# Altium schematic symbol library Sensor_Gas.SchLib: 14 symbols
Pins are listed as number, name and electrical type; pins without a type are passive.

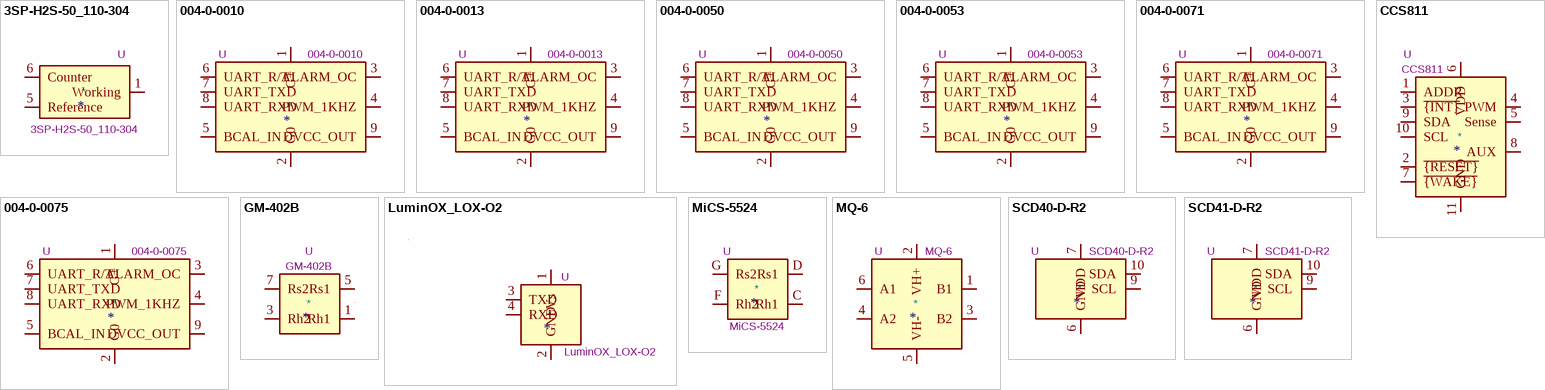
[diagram p0: symbols 3SP-H2S-50_110-304 to SCD41-D-R2]

## 3SP-H2S-50_110-304
designator *  value 3SP-H2S-50_110-304  Reference: U
ki_keywords: H2S sensor; ki_description: SPEC Sensors electrochemical H2S gas sensor; ki_fp_filters: SPEC*110*10Pin*; Footprint: Sensor:SPEC_110-xxx_SMD-10Pin_20x20mm_P4.0mm; Datasheet: https://www.spec-sensors.com/wp-content/uploads/2016/10/3SP_H2S_50-C-Package-110-304.pdf
pins: 1 Working, 5 Reference, 6 Counter, 10 Working hidden

## 004-0-0010
designator *  value 004-0-0010  Reference: U
ki_keywords: Senseair co2 gas sensor pwm modbus; ki_description: S8 Commercial, CO2 sensor, 400-2000 PPM, 1kHz PWM output, Modbus, THT; ki_fp_filters: Senseair*S8*; Datasheet: https://rmtplusstoragesenseair.blob.core.windows.net/docs/publicerat/PSP103.pdf
pins: 1 G+, 2 G0, 3 ALARM_OC, 4 PWM_1KHZ, 5 BCAL_IN, 6 UART_R/T, 7 UART_TXD, 8 UART_RXD, 9 DVCC_OUT

## 004-0-0013
designator *  value 004-0-0013  Reference: U
ki_keywords: Senseair co2 gas sensor pwm modbus; ki_description: S8 Residential, CO2 sensor, 400-2000 PPM, 1kHz PWM output, Modbus, THT; ki_fp_filters: Senseair*S8*; Datasheet: https://rmtplusstoragesenseair.blob.core.windows.net/docs/publicerat/PSP107.pdf
pins: 1 G+, 2 G0, 3 ALARM_OC, 4 PWM_1KHZ, 5 BCAL_IN, 6 UART_R/T, 7 UART_TXD, 8 UART_RXD, 9 DVCC_OUT

## 004-0-0050
designator *  value 004-0-0050  Reference: U
ki_keywords: Senseair co2 gas sensor pwm modbus; ki_description: S8 2%, CO2 sensor, 0.04-2% by volume, 1kHz PWM output, Modbus, THT; ki_fp_filters: Senseair*S8*; Datasheet: https://rmtplusstoragesenseair.blob.core.windows.net/docs/publicerat/PSP108.pdf
pins: 1 G+, 2 G0, 3 ALARM_OC, 4 PWM_1KHZ, 5 BCAL_IN, 6 UART_R/T, 7 UART_TXD, 8 UART_RXD, 9 DVCC_OUT

## 004-0-0053
designator *  value 004-0-0053  Reference: U
ki_keywords: Senseair co2 gas sensor pwm modbus; ki_description: S8 LP, CO2 sensor, 400-2000 PPM, 1kHz PWM output, Modbus, THT; ki_fp_filters: Senseair*S8*; Datasheet: https://rmtplusstoragesenseair.blob.core.windows.net/docs/publicerat/PSP126.pdf
pins: 1 G+, 2 G0, 3 ALARM_OC, 4 PWM_1KHZ, 5 BCAL_IN, 6 UART_R/T, 7 UART_TXD, 8 UART_RXD, 9 DVCC_OUT

## 004-0-0071
designator *  value 004-0-0071  Reference: U
ki_keywords: Senseair co2 gas sensor pwm modbus; ki_description: S8 5%, CO2 sensor, 0.04-5% by volume, 1kHz PWM output, Modbus, THT; ki_fp_filters: Senseair*S8*; Datasheet: https://rmtplusstoragesenseair.blob.core.windows.net/docs/publicerat/PSP0113.pdf
pins: 1 G+, 2 G0, 3 ALARM_OC, 4 PWM_1KHZ, 5 BCAL_IN, 6 UART_R/T, 7 UART_TXD, 8 UART_RXD, 9 DVCC_OUT

## 004-0-0075
designator *  value 004-0-0075  Reference: U
ki_keywords: Senseair co2 gas sensor pwm modbus; ki_description: S8 Commercial, CO2 sensor, 400-2000 PPM, 1kHz PWM output, Modbus, THT; ki_fp_filters: Senseair*S8*; Datasheet: https://rmtplusstoragesenseair.blob.core.windows.net/docs/publicerat/PSP103.pdf
pins: 1 G+, 2 G0, 3 ALARM_OC, 4 PWM_1KHZ, 5 BCAL_IN, 6 UART_R/T, 7 UART_TXD, 8 UART_RXD, 9 DVCC_OUT

## CCS811
designator *  value CCS811  Reference: U
ki_keywords: metal oxide gas sensor MOX volatile organix comounds VOC I2C; ki_description: Ultra-low power digital gas sensor for monitoring indoor air quality; ki_fp_filters: AMS?LGA*EP*2.7x4mm*P0.6mm*; Footprint: Package_LGA:AMS_LGA-10-1EP_2.7x4mm_P0.6mm; Datasheet: https://www.sciosense.com/wp-content/uploads/documents/SC-001232-DS-3-CCS811B-Datasheet-Revision-2.pdf
pins: 1 ADDR, 2 ~{{RESET}}, 3 ~{{INT}}, 4 PWM, 5 Sense, 6 VDD, 7 ~{{WAKE}}, 8 AUX, 9 SDA, 10 SCL, 11 GND

## GM-402B
designator *  value GM-402B  Reference: U
ki_keywords: gas sensor; ki_description: MEMS Combustible Gas Sensor; ki_fp_filters: Winson?GM?402B*; Footprint: Sensor:Winson_GM-402B_5x5mm_P1.27mm; Datasheet: https://www.winsen-sensor.com/d/files/me2/mems--gm-402b--manual-v1_1.pdf
pins: 1 Rh1, 2 NC hidden, 3 Rh2, 4 NC hidden, 5 Rs1, 6 NC hidden, 7 Rs2, 8 NC hidden

## LuminOX_LOX-O2
designator *  value LuminOX_LOX-O2  Reference: U
ki_keywords: O2 sensor; ki_description: SST LuminOX Luminescence-based O2 sensor; ki_fp_filters: LuminOX?LOX?O2*; Footprint: Sensor:LuminOX_LOX-O2; Datasheet: https://sstsensing.com/wp-content/uploads/2021/08/DS0030rev15_LuminOx.pdf
pins: 1 Vs, 2 GND, 3 TXD, 4 RXD

## MiCS-5524
designator *  value MiCS-5524  Reference: U
ki_keywords: CO sensor; ki_description: Compact MOS CO sensor; ki_fp_filters: Sensortech?MiCS?5x7mm*P1.25mm*; Footprint: Sensor:Sensortech_MiCS_5x7mm_P1.25mm; Datasheet: https://www.sgxsensortech.com/content/uploads/2014/07/1084_Datasheet-MiCS-5524-rev-8.pdf
pins: A NC hidden, B NC hidden, C Rh1, D Rs1, E NC hidden, F Rh2, G Rs2, H NC hidden, J NC hidden, K NC hidden

## MQ-6
designator *  value MQ-6  Reference: U
ki_keywords: flammable gas sensor LPG; ki_description: Semiconductor Sensor for Flammable Gas; ki_fp_filters: *MQ*6*; Footprint: Sensor:MQ-6; Datasheet: https://www.winsen-sensor.com/d/files/semiconductor/mq-6.pdf
pins: 1 B1, 2 VH+, 3 B2, 4 A2, 5 VH-, 6 A1

## SCD40-D-R2
designator *  value SCD40-D-R2  Reference: U
ki_keywords: CO2 sensor I2C; ki_description: Photoacoustic CO2 sensor, 40 000 ppm, I2C, 2.4-5.5 V, Base accuracy  400 - 2000 ppm; ki_fp_filters: Sensirion*SCD4?*; Footprint: Sensor:Sensirion_SCD4x-1EP_10.1x10.1mm_P1.25mm_EP4.8x4.8mm; Datasheet: https://sensirion.com/media/documents/E0F04247/631EF271/CD_DS_SCD40_SCD41_Datasheet_D1.pdf
pins: 6 GND, 7 VDD, 9 SCL, 10 SDA, 19 VDD hidden, 20 GND hidden, 21 GND hidden

## SCD41-D-R2
designator *  value SCD41-D-R2  Reference: U
ki_keywords: CO2 sensor I2C; ki_description: Photoacoustic CO2 sensor, 40 000 ppm, I2C, 2.4-5.5 V, High accuracy  400 - 5000 ppm; ki_fp_filters: Sensirion*SCD4?*; Footprint: Sensor:Sensirion_SCD4x-1EP_10.1x10.1mm_P1.25mm_EP4.8x4.8mm; Datasheet: https://sensirion.com/media/documents/E0F04247/631EF271/CD_DS_SCD40_SCD41_Datasheet_D1.pdf
pins: 6 GND, 7 VDD, 9 SCL, 10 SDA, 19 VDD hidden, 20 GND hidden, 21 GND hidden